# Altium footprint library RESC0402X013.PcbLib: 3 footprints
Each footprint in its own frame and in the unit in brackets; x right, y up, seen from the top. Pads: shape width x height; smd on the part's side, far side on the other; paste and mask are expansions set on the pad; w line width, h text height; cw(c..) or ccw(c..) is an arc to the next point about the centre after c.
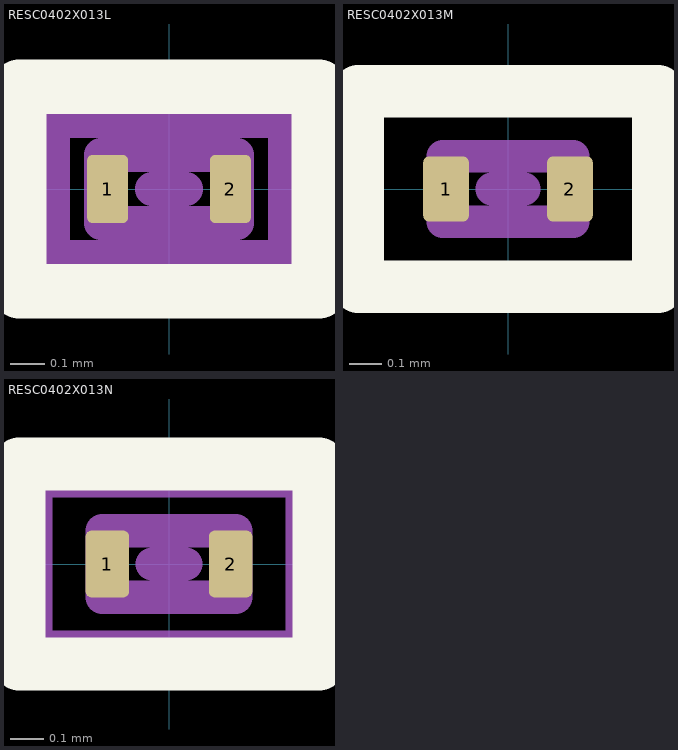
[diagram p0: the footprints below, top view; thin cyan lines are the x and y axes]

## RESC0402X013L [mm] "Resistors, Chip"
height 0.15
pads (2):
  rrect25% 0.12x0.2 smd: 1(-0.18,0) 2(0.18,0)
Top Overlay:
  lines w0.16: -0.44,-0.3 0.44,-0.3 0.44,0.3 -0.44,0.3 -0.44,-0.3
Top Component Center:
  lines w0.1: -0.05,0 0.05,0 ; 0,-0.05 0,0.05
Top Courtyard:
  lines w0.1: -0.34,-0.2 0.34,-0.2 0.34,0.2 -0.34,0.2 -0.34,-0.2
Top Assembly:
  lines w0.1: -0.2,-0.1 0.2,-0.1 0.2,0.1 -0.2,0.1 -0.2,-0.1
  text ".Designator" at 0,0 h1
3D body "RESC0402X013L.STEP": height 0.13, standoff 0, extent -0.2,-0.1 0.2,0.1

## RESC0402X013M [mm] "Resistors, Chip"
height 0.15
pads (2):
  rrect25% 0.14x0.2 smd: 1(-0.19,0) 2(0.19,0)
Top Overlay:
  lines w0.16: -0.46,-0.3 0.46,-0.3 0.46,0.3 -0.46,0.3 -0.46,-0.3
Top Component Center:
  lines w0.1: -0.05,0 0.05,0 ; 0,-0.05 0,0.05
Top Courtyard:
  lines w0.1: -0.46,-0.3 0.46,-0.3 0.46,0.3 -0.46,0.3 -0.46,-0.3
Top Assembly:
  lines w0.1: -0.2,-0.1 0.2,-0.1 0.2,0.1 -0.2,0.1 -0.2,-0.1
  text ".Designator" at 0,0 h1
3D body "RESC0402X013M.STEP": height 0.13, standoff 0, extent -0.2,-0.1 0.2,0.1

## RESC0402X013N [mm] "Resistors, Chip"
height 0.15
pads (2):
  rrect25% 0.13x0.2 smd: 1(-0.185,0) 2(0.185,0)
Top Overlay:
  lines w0.16: -0.45,-0.3 0.45,-0.3 0.45,0.3 -0.45,0.3 -0.45,-0.3
Top Component Center:
  lines w0.1: -0.05,0 0.05,0 ; 0,-0.05 0,0.05
Top Courtyard:
  lines w0.1: -0.4,-0.25 0.4,-0.25 0.4,0.25 -0.4,0.25 -0.4,-0.25
Top Assembly:
  lines w0.1: -0.2,-0.1 0.2,-0.1 0.2,0.1 -0.2,0.1 -0.2,-0.1
  text ".Designator" at 0,0 h1
3D body "RESC0402X013N.STEP": height 0.13, standoff 0, extent -0.2,-0.1 0.2,0.1